# Altium schematic symbol library ATMEGA2560-16AU.SchLib: 1 symbol
Pins are listed as number, name and electrical type; pins without a type are passive.

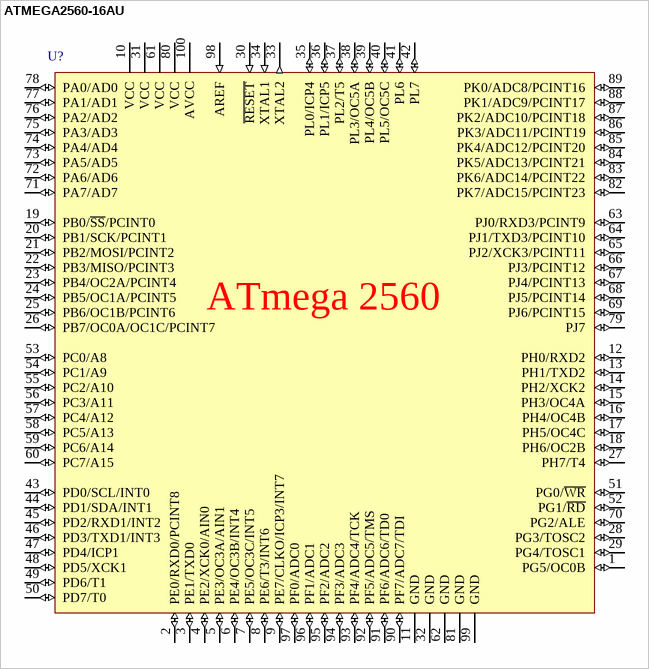
[diagram p0: symbol ATMEGA2560-16AU]

## ATMEGA2560-16AU
designator U?  (value not drawn)
IC MCU 8BIT 256KB FLASH 100TQFP; Manufacturer: Microchip; Manufacturer Lifecycle Status: REL; Access Time: 16µs; Core Architecture: AVR; Data Bus Width: 8b; Density: 2Mb; Frequency: 16MHz; Interface: 2-Wire, I2C, SPI, USART; Max Supply Voltage: 5.5V; Min Supply Voltage: 4.5V; Number of A/D Converters: 1; Number of ADC Channels: 16; Number of I/Os: 86; Number of PWM Channels: 20; Number of SPI Channels: 5; Number of Timers/Counters: 6; Number of UART Channels: 4; Operating Supply Voltage: 5V; Oscillator Type: Internal; Peripherals: Brown-out Detect/Reset, POR, PWM, WDT; RAM Size: 8kB; Watchdog Timer: Yes; Supplier: DigiKey; Supplier Part Number: ATMEGA2560-16AU-ND; Manufacturer Part Number: ATMEGA2560-16AU; RoHS: Compliant; Category: Microcontrollers; Stock: 12847; Pricing: 1=18.11 (USD); Projected EOL Date: 2039-11-01; Case/Package: TQFP; Country of Assembly: Thailand; Country of Fabrication: United States of America; Country of Origin: Thailand; Export Control Classification Number (ECCN) Code: EAR99; Height: 1.2mm; HS Code: 8542.31.0015; Harmonized Tariff Schedule (HTS) Code: 8542.31.0015; Lead Free: Lead Free; Length: 14.1mm; Lifecycle Status: Production; Clock Frequency: 16MHz; Max Operating Temperature: 85°C; Memory Size: 256kB; Memory Format: FLASH; Min Operating Temperature: -40°C; Mounting Technology: Surface Mount; Number of I2C Channels: 1; Pins: 100; Number of Programmable I/O: 86; Number of Terminals: 100; Radiation Hardening: No; REACH SVHC: Unaffected; Schedule B: 8542310000, 8542310000|8542310000|8542310000|8542310000|8542310000; Termination: SMD/SMT; Width: 14.1mm; ComponentLink1URL: https://datasheet.octopart.com:443/ATMEGA2560-16AU-Microchip-datasheet-141243538.pdf?src-supplier=Microchip; ComponentLink1Description: https://datasheet.octopart.com:443/ATMEGA2560-16AU-Microchip-datasheet-141243538.pdf?src-supplier=Microchip; ComponentLink2URL: https://datasheet.octopart.com:443/ATMEGA2560-16AU-Microchip-datasheet-24967521.pdf?src-supplier=element14+APAC; ComponentLink2Description: https://datasheet.octopart.com:443/ATMEGA2560-16AU-Microchip-datasheet-24967521.pdf?src-supplier=element14+APAC; ComponentLink3URL: https://datasheet.octopart.com:443/ATMEGA2560-16AU-Microchip-datasheet-62057665.pdf?src-supplier=element14+APAC; ComponentLink3Description: https://datasheet.octopart.com:443/ATMEGA2560-16AU-Microchip-datasheet-62057665.pdf?src-supplier=element14+APAC; ComponentLink4URL: https://datasheet.octopart.com:443/ATMEGA2560-16AU-Microchip-datasheet-46907977.pdf?src-supplier=SHENGYU+ELECTRONICS; ComponentLink4Description: https://datasheet.octopart.com:443/ATMEGA2560-16AU-Microchip-datasheet-46907977.pdf?src-supplier=SHENGYU+ELECTRONICS; ComponentLink5URL: https://sigma.octopart.com:443/138797047/technical_drawing/Microchip-ATMEGA2560-16AU.pdf?src-supplier=Upverter; ComponentLink5Description: https://sigma.octopart.com:443/138797047/technical_drawing/Microchip-ATMEGA2560-16AU.pdf?src-supplier=Upverter; ComponentLink6URL: https://datasheet.octopart.com:443/ATMEGA2560-16AU-Microchip-datasheet-136948588.pdf?src-supplier=Master+Electronics; ComponentLink6Description: https://datasheet.octopart.com:443/ATMEGA2560-16AU-Microchip-datasheet-136948588.pdf?src-supplier=Master+Electronics; ComponentLink7URL: https://datasheet.octopart.com:443/ATMEGA2560-16AU-Atmel-datasheet-5357710.pdf?src-supplier=TME; ComponentLink7Description: https://datasheet.octopart.com:443/ATMEGA2560-16AU-Atmel-datasheet-5357710.pdf?src-supplier=TME; ComponentLink8URL: https://datasheet.octopart.com:443/ATMEGA2560-16AU-Microchip-datasheet-12542.pdf?src-supplier=element14; ComponentLink8Description: https://datasheet.octopart.com:443/ATMEGA2560-16AU-Microchip-datasheet-12542.pdf?src-supplier=element14; ComponentLink9URL: https://datasheet.octopart.com:443/ATMEGA2560-16AU-Atmel-datasheet-13399453.pdf?src-supplier=_legacy+Avnet; ComponentLink9Description: https://datasheet.octopart.com:443/ATMEGA2560-16AU-Atmel-datasheet-13399453.pdf?src-supplier=_legacy+Avnet; ComponentLink10URL: https://datasheet.octopart.com:443/ATMEGA2560-16AU-Microchip-datasheet-120916.pdf?src-supplier=RS+(Formerly+Allied+Electronics); ComponentLink10Description: https://datasheet.octopart.com:443/ATMEGA2560-16AU-Microchip-datasheet-120916.pdf?src-supplier=RS+(Formerly+Allied+Electronics); ComponentLink11URL: http://sigma.octopart.com:80/188449921/materials_sheet/Microchip-ATMEGA2560-16AU.pdf?src-supplier=Compliance+Statements; ComponentLink11Description: http://sigma.octopart.com:80/188449921/materials_sheet/Microchip-ATMEGA2560-16AU.pdf?src-supplier=Compliance+Statements; ComponentLink12URL: http://sigma.octopart.com:80/rohs_statement/Microchip-company-71.pdf?src-supplier=Compliance+Statements; ComponentLink12Description: http://sigma.octopart.com:80/rohs_statement/Microchip-company-71.pdf?src-supplier=Compliance+Statements; ComponentLink13URL: http://sigma.octopart.com:80/reach_statement/Microchip-company-70.pdf?src-supplier=Compliance+Statements; ComponentLink13Description: http://sigma.octopart.com:80/reach_statement/Microchip-company-70.pdf?src-supplier=Compliance+Statements; ComponentLink14URL: http://sigma.octopart.com:80/conflict_mineral_statement/Microchip-company-69.pdf?src-supplier=Compliance+Statements; ComponentLink14Description: http://sigma.octopart.com:80/conflict_mineral_statement/Microchip-company-69.pdf?src-supplier=Compliance+Statements; ComponentLink15URL: http://sigma.octopart.com:80/conflict_mineral_statement/Microchip-company-68.pdf?src-supplier=Compliance+Statements; ComponentLink15Description: http://sigma.octopart.com:80/conflict_mineral_statement/Microchip-company-68.pdf?src-supplier=Compliance+Statements; ComponentLink16URL: http://sigma.octopart.com:80/reach_statement/Atmel-company-6.pdf?src-supplier=Compliance+Statements; ComponentLink16Description: http://sigma.octopart.com:80/reach_statement/Atmel-company-6.pdf?src-supplier=Compliance+Statements; ComponentLink17URL: http://sigma.octopart.com:80/rohs_statement/Atmel-company-5.pdf?src-supplier=Compliance+Statements; ComponentLink17Description: http://sigma.octopart.com:80/rohs_statement/Atmel-company-5.pdf?src-supplier=Compliance+Statements; ComponentLink18URL: http://sigma.octopart.com:80/rohs_statement/Atmel-company-4.pdf?src-supplier=Compliance+Statements; ComponentLink18Description: http://sigma.octopart.com:80/rohs_statement/Atmel-company-4.pdf?src-supplier=Compliance+Statements
footprint QFP50P1600X1600X120-100N
footprint QFP50P1600X1600X120-100N
pins: 1  PG5/OC0B (io), 2 PE0/RXD0/PCINT8 (io), 3 PE1/TXD0 (io), 4 PE2/XCK0/AIN0 (io), 5 PE3/OC3A/AIN1 (io), 6 PE4/OC3B/INT4 (io), 7 PE5/OC3C/INT5 (io), 8 PE6/T3/INT6 (io), 9 PE7/CLKO/ICP3/INT7 (io), 10 VCC (power), 11 GND (power), 12 PH0/RXD2 (io), 13 PH1/TXD2 (io), 14 PH2/XCK2 (io), 15 PH3/OC4A (io), 16 PH4/OC4B (io), 17 PH5/OC4C (io), 18 PH6/OC2B (io), 19 PB0/~{SS}/PCINT0 (io), 20 PB1/SCK/PCINT1 (io), 21 PB2/MOSI/PCINT2 (io), 22 PB3/MISO/PCINT3 (io), 23 PB4/OC2A/PCINT4 (io), 24 PB5/OC1A/PCINT5 (io), 25 PB6/OC1B/PCINT6 (io), 26 PB7/OC0A/OC1C/PCINT7 (io), 27 PH7/T4 (io), 28 PG3/TOSC2 (io), 29 PG4/TOSC1 (io), 30 ~{RESET} (in), 31 VCC (power), 32 GND (power), 33 XTAL2 (out), 34 XTAL1 (in), 35 PL0/ICP4 (io), 36 PL1/ICP5 (io), 37 PL2/T5 (io), 38 PL3/OC5A (io), 39 PL4/OC5B (io), 40 PL5/OC5C (io), 41 PL6 (io), 42 PL7 (io), 43 PD0/SCL/INT0 (io), 44 PD1/SDA/INT1 (io), 45 PD2/RXD1/INT2 (io), 46 PD3/TXD1/INT3 (io), 47 PD4/ICP1 (io), 48 PD5/XCK1 (io), 49 PD6/T1 (io), 50 PD7/T0 (io), 51 PG0/~{WR} (io), 52 PG1/~{RD} (io), 53 PC0/A8 (io), 54 PC1/A9 (io), 55 PC2/A10 (io), 56 PC3/A11 (io), 57 PC4/A12 (io), 58 PC5/A13 (io), 59 PC6/A14 (io), 60 PC7/A15 (io), 61 VCC (power), 62 GND (power), 63 PJ0/RXD3/PCINT9 (io), 64 PJ1/TXD3/PCINT10 (io), 65 PJ2/XCK3/PCINT11 (io), 66 PJ3/PCINT12 (io), 67 PJ4/PCINT13 (io), 68 PJ5/PCINT14 (io), 69 PJ6/PCINT15 (io), 70 PG2/ALE (io), 71 PA7/AD7 (io), 72 PA6/AD6 (io), 73 PA5/AD5 (io), 74 PA4/AD4 (io), 75 PA3/AD3 (io), 76 PA2/AD2 (io), 77 PA1/AD1 (io), 78 PA0/AD0 (io), 79 PJ7 (io), 80 VCC (power), 81 GND (power), 82 PK7/ADC15/PCINT23 (io), 83 PK6/ADC14/PCINT22 (io), 84 PK5/ADC13/PCINT21 (io), 85 PK4/ADC12/PCINT20 (io), 86 PK3/ADC11/PCINT19 (io), 87 PK2/ADC10/PCINT18 (io), 88 PK1/ADC9/PCINT17 (io), 89 PK0/ADC8/PCINT16 (io), 90 PF7/ADC7/TDI (io), 91 PF6/ADC6/TD0 (io), 92 PF5/ADC5/TMS (io), 93 PF4/ADC4/TCK (io), 94 PF3/ADC3 (io), 95 PF2/ADC2 (io), 96 PF1/ADC1 (io), 97 PF0/ADC0 (io), 98 AREF (in), 99 GND (power), 100 AVCC (power)
text: ATmega 2560